# EAGLE library part LAIRD-LWB (library vikc-rf)
Laird Sterling LWB Module
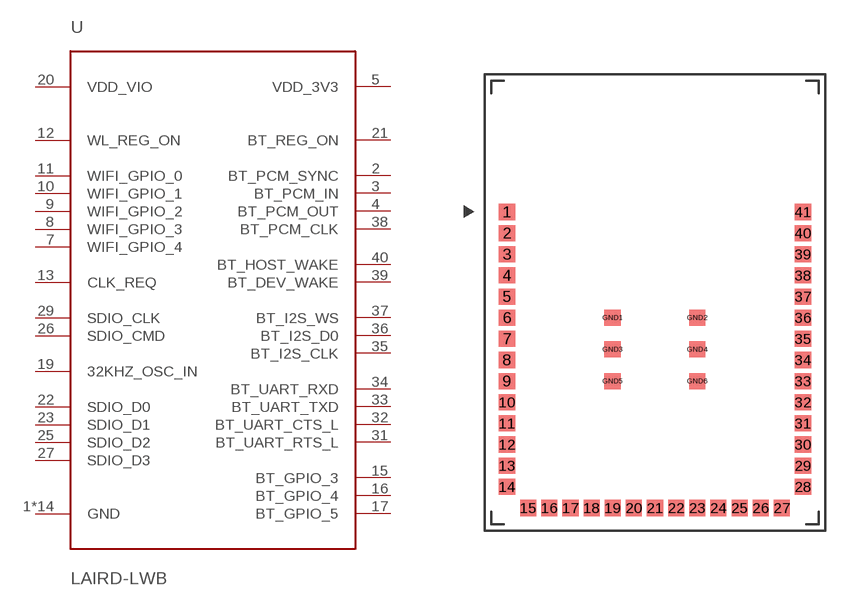
[diagram p1: symbol with the pads of LAIRD-LWB; footprint LAIRD-LWB]

Designator prefix U

## LAIRD-LWB  [LAIRD-LWB]
1  GND
2  BT_PCM_SYNC
3  BT_PCM_IN
4  BT_PCM_OUT
5  VDD_3V3
6  GND
7  WIFI_GPIO_4
8  WIFI_GPIO_3
9  WIFI_GPIO_2
10  WIFI_GPIO_1
11  WIFI_GPIO_0
12  WL_REG_ON
13  CLK_REQ
14  GND
15  BT_GPIO_3
16  BT_GPIO_4
17  BT_GPIO_5
18  GND
19  32KHZ_OSC_IN
20  VDD_VIO
21  BT_REG_ON
22  SDIO_D0
23  SDIO_D1
24  GND
25  SDIO_D2
26  SDIO_CMD
27  SDIO_D3
28  GND
29  SDIO_CLK
30  GND
31  BT_UART_RTS_L
32  BT_UART_CTS_L
33  BT_UART_TXD
34  BT_UART_RXD
35  BT_I2S_CLK
36  BT_I2S_D0
37  BT_I2S_WS
38  BT_PCM_CLK
39  BT_DEV_WAKE
40  BT_HOST_WAKE
41  GND
GND1  GND
GND2  GND
GND3  GND
GND4  GND
GND5  GND
GND6  GND

## Footprint LAIRD-LWB (pad centres in mm)
smd 0.762 x 0.762: 1 -7,6; 2 -7,5; 3 -7,4; 4 -7,3; 5 -7,2; 6 -7,1; 7 -7,0; 8 -7,-1; 9 -7,-2; 10 -7,-3; 11 -7,-4; 12 -7,-5; 13 -7,-6; 14 -7,-7; 15 -6,-8; 16 -5,-8; 17 -4,-8; 18 -3,-8; 19 -2,-8; 20 -1,-8; 21 0,-8; 22 1,-8; 23 2,-8; 24 3,-8; 25 4,-8; 26 5,-8; 27 6,-8; 28 7,-7; 29 7,-6; 30 7,-5; 31 7,-4; 32 7,-3; 33 7,-2; 34 7,-1; 35 7,0; 36 7,1; 37 7,2; 38 7,3; 39 7,4; 40 7,5; 41 7,6; GND1 -2.01,1; GND2 1.99,1; GND3 -2.01,-0.5; GND4 1.99,-0.5; GND5 -2.01,-2; GND6 1.99,-2